# Altium footprint library LM1117DT-1.PcbLib: 3 footprints
Each footprint in its own frame and in the unit in brackets; x right, y up, seen from the top. Pads: shape width x height; smd on the part's side, far side on the other; paste and mask are expansions set on the pad; w line width, h text height; cw(c..) or ccw(c..) is an arc to the next point about the centre after c.
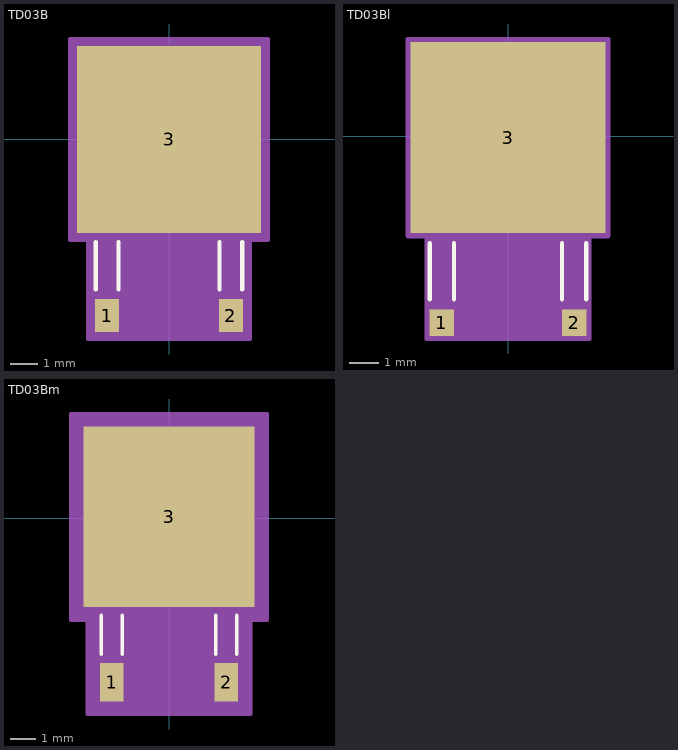
[diagram p0: the footprints below, top view; thin cyan lines are the x and y axes]

## TD03B [mil]
pads (3):
  rect 35x48 smd: 1(-89.96,-256) 2(89.96,-256)
  rect 267x272 smd: 3(0,0)
Top Overlay:
  lines w6: -106.46,-218 -106.46,-149.1 ; -73.46,-218 -73.46,-149.1 ; 73.46,-218 73.46,-149.1 ; 106.46,-218 106.46,-149.1
Mechanical 13:
  text "*" at -89.96,-112 h50
Mechanical 15:
  region: -117.46,-146 -143.5,-146 -143.5,146 143.5,146 143.5,-146 117.46,-146 117.46,-290 -117.46,-290
  lines w6: -143.5,-146 -117.46,-146 -117.46,-290 117.46,-290 117.46,-146 143.5,-146 143.5,146 -143.5,146 -143.5,-146

## TD03Bl [mil]
pads (3):
  rect 33x36 smd: 1(-89.96,-254) 2(89.96,-254)
  rect 265x260 smd: 3(0,-2)
Top Overlay:
  lines w6: -106.46,-222 -106.46,-146 ; -73.46,-222 -73.46,-146 ; 73.46,-222 73.46,-146 ; 106.46,-222 106.46,-146
Mechanical 13:
  text "*" at -89.96,-112 h50
Mechanical 15:
  region: -110.46,-136 -136.5,-136 -136.5,132 136.5,132 136.5,-136 110.46,-136 110.46,-276 -110.46,-276
  lines w6: -136.5,-136 -110.46,-136 -110.46,-276 110.46,-276 110.46,-136 136.5,-136 136.5,132 -136.5,132 -136.5,-136

## TD03Bm [mil]
pads (3):
  rect 37x60 smd: 1(-89.96,-258) 2(89.96,-258)
  rect 269x284 smd: 3(0,2)
Top Overlay:
  lines w6: -106.46,-214 -106.46,-153.1 ; -73.46,-214 -73.46,-153.1 ; 73.46,-214 73.46,-153.1 ; 106.46,-214 106.46,-153.1
Mechanical 13:
  text "*" at -89.96,-112 h50
Mechanical 15:
  region: -128.46,-160 -154.5,-160 -154.5,164 154.5,164 154.5,-160 128.46,-160 128.46,-308 -128.46,-308
  lines w6: -154.5,-160 -128.46,-160 -128.46,-308 128.46,-308 128.46,-160 154.5,-160 154.5,164 -154.5,164 -154.5,-160
3D body "TD03B.stp": height 94.01, standoff -0.1, extent -132.5,-273.5 132.5,32.1